# EAGLE library part ACT4060ASH-T (library quentin)
Switching Regulators 24V, 2A, 400kHz Step-Down Converter
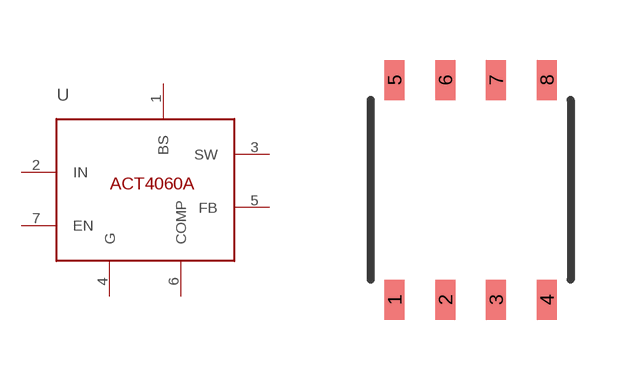
[diagram p1: symbol with the pads of SOP-8; footprint SOP-8]

Designator prefix -

## ACT4060ASH-TSMD  [SOP-8]
1  BS
2  IN
3  SW
4  G
5  FB
6  COMP
7  EN

## Footprint SOP-8 (pad centres in mm)
smd 0.5 x 1: 1 0,0; 2 1.27,0; 3 2.54,0; 4 3.81,0; 5 0,5.5; 6 1.27,5.5; 7 2.54,5.5; 8 3.81,5.5